# Altium footprint library INA169NA.PCBLIB: 1 footprints
Each footprint in its own frame and in the unit in brackets; x right, y up, seen from the top. Pads: shape width x height; smd on the part's side, far side on the other; paste and mask are expansions set on the pad; w line width, h text height; cw(c..) or ccw(c..) is an arc to the next point about the centre after c.
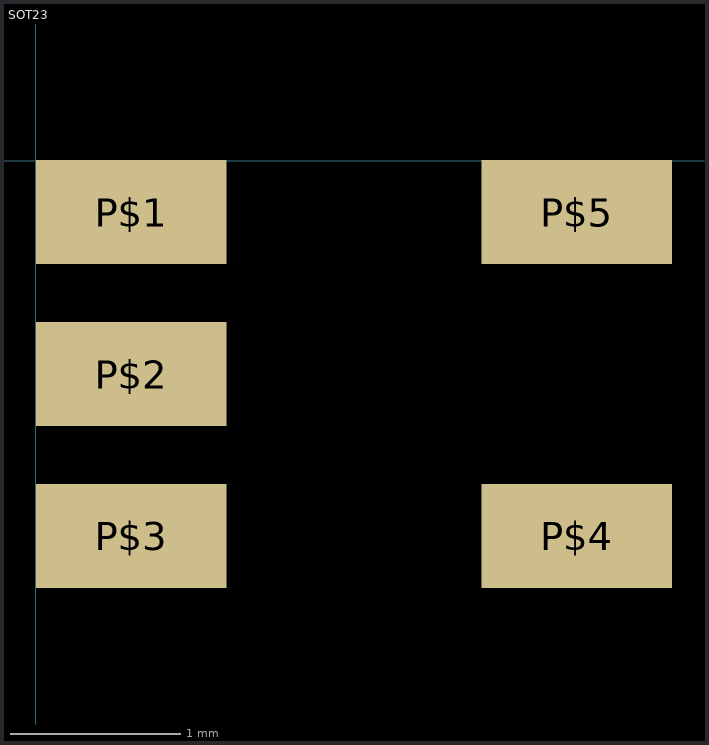
[diagram p0: the footprint, top view; thin cyan lines are the x and y axes]

## SOT23 [mil]
pads (5):
  rect 44x24 smd: P$1(22,-11.81) P$2(22,-49.21) P$3(22,-86.61) P$4(125,-86.61) P$5(125,-11.81)